# Altium schematic symbol library TRA-NPN.Schlib: 1 symbol
Pins are listed as number, name and electrical type; pins without a type are passive.

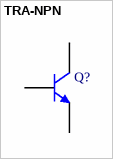
[diagram p0: symbol TRA-NPN]

## TRA-NPN
designator Q?
General Purpose Transistor NPN Silicon
pins: 1 B, 2 E, 3 C